# EAGLE library part LM43602 (library FSEWeatherShield)
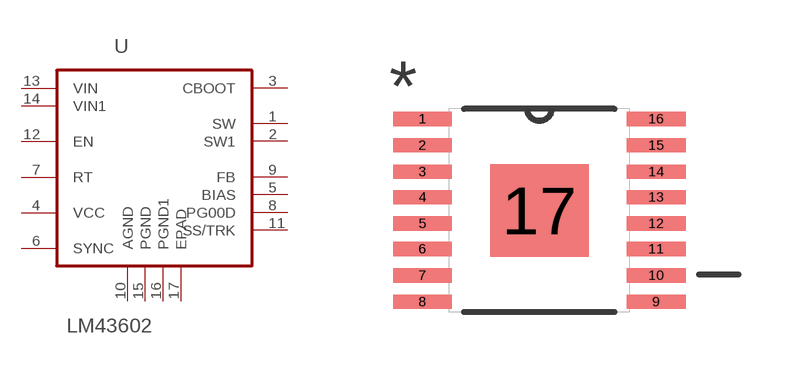
[diagram p2: symbol with the pads of HTSSOP-16; footprint HTSSOP-16]

Designator prefix -

## LM43602  [HTSSOP-16]
1  SW  out
2  SW1  out
3  CBOOT  out
4  VCC  out
5  BIAS  out
6  SYNC  out
7  RT  out
8  PG00D  out
9  FB  out
10  AGND  out
11  SS/TRK  out
12  EN  out
13  VIN  out
14  VIN1  out
15  PGND  out
16  PGND1  out
17  EPAD  pas

## Footprint HTSSOP-16 (pad centres in mm)
smd 1.473 x 0.356: 1 -2.921,2.286; 2 -2.921,1.626; 3 -2.921,0.965; 4 -2.921,0.33; 5 -2.921,-0.33; 6 -2.921,-0.965; 7 -2.921,-1.626; 8 -2.921,-2.286; 9 2.921,-2.286; 10 2.921,-1.626; 11 2.921,-0.965; 12 2.921,-0.33; 13 2.921,0.33; 14 2.921,0.965; 15 2.921,1.626; 16 2.921,2.286
smd 2.464 x 2.311: 17 0,0